# EAGLE library part 429427320917 (library Wurth_Switch_WS-ROTU)
WS-ROTU THT Rotary Switch Right Angled with Arrow Type Actuator, 5.08 mm Pitch, 10x10 mm Material Properties Cover Material : PA66 Packaging Properties Packaging :Tube Electrical Properties IR 1 :150 mA Properties Actuator Materia:POM Actuator Flammability Rating:UL94 HB Actuator Color:Dark Grey; Ivory Base Material:PA66 Base Flammability Rating:UL94 V-0 Terminal Plating:Gold Actuator Type:Arrow Type Washable:Yes Mechanical Properties Electrical Life：10000 Steps Actuator Type：Arrow Type Code：Complement Code; Real Code General Information Operating Temperature:-40 up to +85 °C Tableadditional Actuator Type：Arrow Type Washable：Yes <https://www.we-online.com/catalog/media/o61133v209%20Family_WS_RAT_10x10_THT_42942732091x_pf2.jpg> Details see: https://www.we-online.com/catalog/en/ROTU_10X10_WASHABLE_THT_RIGHT_ANGLED_ARROW_TYPE_PITCH_5_08/ Updated by yingchun,Shan;2020-02-24 2020(C) Würth Elektronik
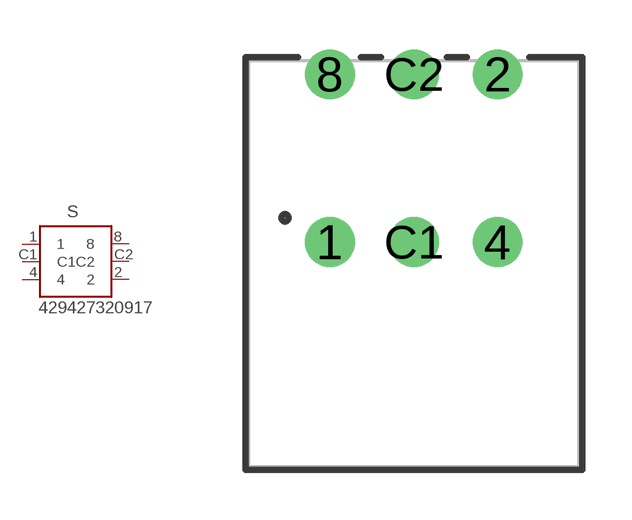
[diagram p12: symbol with the pads of 42942732091X_16POS; footprint 42942732091X_16POS]

Designator prefix S

## 429427320917 (DATASHEET-URL: https://www.we-online.com/catalog/datasheet/429427320917.pdf; NUMBER-OF-POSITION: 16; PART-NUMBER: 429427320917; QTY: 50)  [42942732091X_16POS]
1  1  pas
2  2  pas
4  4  pas
8  8  pas
C1  C1  pas
C2  C2  pas

## Footprint 42942732091X_16POS (pad centres in mm)
WS-ROTU THT Rotary Switch Right Angled with Arrow Type Actuator, 5.08 mm Pitch, 10x10 mm
drill 1: 1 -2.54,0.65; 2 2.54,5.73; 4 2.54,0.65; 8 -2.54,5.73; C1 0,0.65; C2 0,5.73